# EAGLE library part LTC1440* (library linear-technology)
Comparator - ultralow power with reference
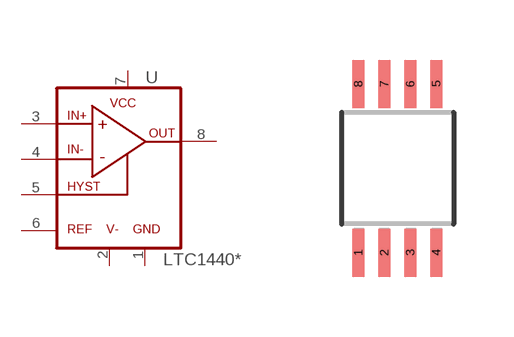
[diagram p3: symbol with the pads of MSOP08; footprint MSOP08]

Designator prefix U

## LTC1440 (P1I: o)  [MSOP08]
1  GND  pwr
2  V-  pwr
3  IN+  in
4  IN-  in
5  HYST  pas
6  REF  out
7  VCC  pwr
8  OUT  out

## Footprint MSOP08 (pad centres in mm)
Mini Small Outline Package
smd 0.3 x 1.2: 1 -0.976,-2.113; 2 -0.326,-2.113; 3 0.324,-2.113; 4 0.974,-2.113; 5 0.974,2.112; 6 0.324,2.112; 7 -0.326,2.112; 8 -0.976,2.112